# EAGLE library part RFDUINO_PADS_11 (library AKA_test)
RFDuino solder pads for custom breakout boards. This is the power and programming side of the board, not the side with general GPIOs
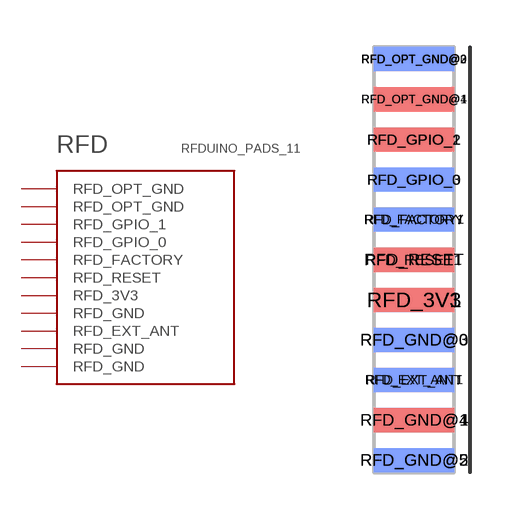
[diagram p1: symbol with the pads of RFDUINO_PADS; footprint RFDUINO_PADS]

Designator prefix RFD

## RFDUINO_PADS_11  [RFDUINO_PADS]
RFD_3V3  RFD_3V3  pwr
RFD_EXT_ANT  RFD_EXT_ANT  nc
RFD_FACTORY  RFD_FACTORY  nc
RFD_GND@0  RFD_GND  pwr
RFD_GND@1  RFD_GND  pwr
RFD_GND@2  RFD_GND  pwr
RFD_GPIO_0  RFD_GPIO_0
RFD_GPIO_1  RFD_GPIO_1
RFD_OPT_GND@0  RFD_OPT_GND  nc
RFD_OPT_GND@1  RFD_OPT_GND  nc
RFD_RESET  RFD_RESET  in

## Footprint RFDUINO_PADS (pad centres in mm)
smd 2.54 x 0.762: RFD_3V1 1.27,5.461; RFD_EXT_ANT 1.27,2.921; RFD_FACTORY 1.27,8.001; RFD_GND@0 1.27,4.191; RFD_GND@2 1.27,0.381; RFD_GND@4 1.27,1.651; RFD_GPIO_0 1.27,9.271; RFD_GPIO_2 1.27,10.541; RFD_OPT_GND@0 1.27,13.081; RFD_OPT_GND@2 1.27,13.081; RFD_OPT_GND@4 1.27,11.811; RFD_RESET1 1.27,6.731
smd 2.54 x 0.762 bottom: RFD_3V3 1.27,5.461; RFD_EXT_ANT1 1.27,2.921; RFD_FACTORY1 1.27,8.001; RFD_GND@1 1.27,1.651; RFD_GND@3 1.27,4.191; RFD_GND@5 1.27,0.381; RFD_GPIO_1 1.27,10.541; RFD_GPIO_3 1.27,9.271; RFD_OPT_GND@1 1.27,11.811; RFD_OPT_GND@3 1.27,13.081; RFD_RESET 1.27,6.731